# Altium integrated library Linear Technology Power Management Energy Harvesting.IntLib: 169 symbols (part 10 of 13)
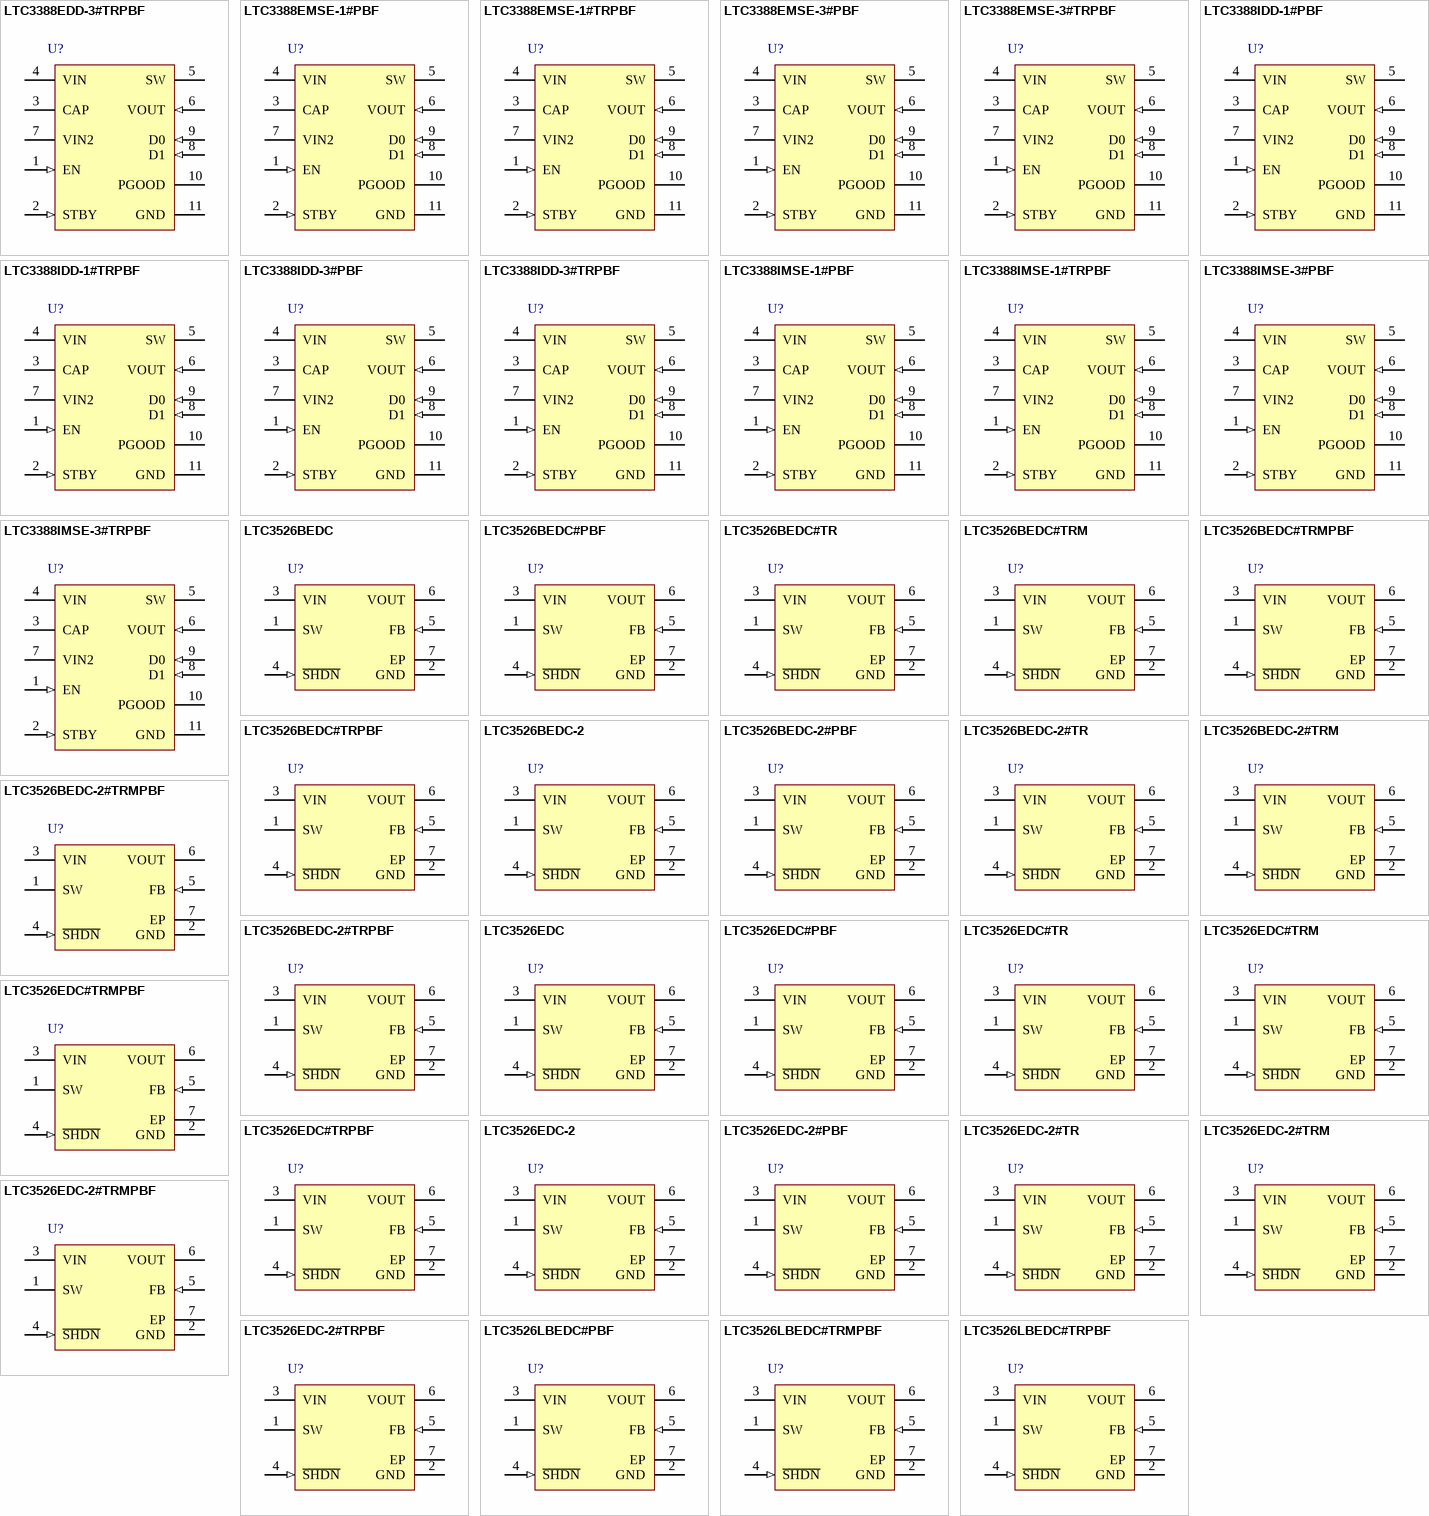
[diagram p14: symbols LTC3388EDD-3#TRPBF to LTC3526LBEDC#TRPBF]

## LTC3526EDC-2#TR
designator U?
500 mA 1 MHz Synchronous Step-Up DC/DC Converter, 6-pin SON (DC6-6), -40 to 85 degC, Tape and Reel; Manufacturer: Linear Technology; PartNumber: LTC3526EDC-2#TR; Number of Outputs: 1; Topology: Boost; Vin Max(V): 5; Vin Min(V): 0.5; DatasheetVersion: Rev. D; PackageVersion: Rev. B, 06/2010; PackageReference: DC6-6; PackageDescription: 6-Pin Plastic DFN, Body 2 x 2 mm, Pitch 0.5 mm; Packing: Tape and Reel; RoHS: FALSE; Mounting Technology: Surface Mount; Code_JEDEC: MO-229; ComponentLink1Description: Manufacturer URL; ComponentLink1URL: http://www.linear.com/; ComponentLink2Description: Datasheet; ComponentLink2URL: http://cds.linear.com/docs/en/datasheet/3526bfd.pdf; ComponentLink3Description: Package Specification; ComponentLink3URL: http://cds.linear.com/docs/en/packaging/DFN_6_05-08-1703.pdf
footprint LT-DC6-6_V (SON, 6-Leads, Body 2x2mm, Pitch 0.5mm, Thermal Pad 1.42x0.61mm)
pins: 1 SW (power) "Switch Pin. Connect inductor between SW and VIN. Keep PCB trace lengths as short and wide as possible to reduce EMI. If the inductor current falls to zero or S\H\D\N\ is low, an internal anti-ringing switch is connected from (See Datasheet)", 2 GND (power) "Signal and Power Ground. Provide a short direct PCB path between GND and the (-) side of the input and output capacitors.", 3 VIN (power) "Input Supply Pin. Connect a minimum of 1uF ceramic decoupling capacitor from this pin to ground using short direct PCB traces.", 4 ~{SHDN} (in) "Logic Controlled Shutdown Input. There is an internal 4Mohm pull-down on this pin.", 5 FB (in) "Feedback Input to the gm Error Amplifier. Connect resistor divider tap to this pin. The top of the divider connects to the output capacitor, the bottom of the divider connects to GND.", 6 VOUT (power) "Output voltage sense and drain of the internal synchronous rectifier. PCB trace from VOUT to the output filter capacitor (4.7uF minimum) should be as short and wide as possible.", 7 EP (power) "The Exposed Pad must be soldered to the PCB ground plane. It serves as an additional ground connection and as a means of conducting heat away from the package."

## LTC3526EDC-2#TRM
designator U?
500 mA 1 MHz Synchronous Step-Up DC/DC Converter, 6-pin SON (DC6-6), -40 to 85 degC, Mini Tape and Reel; Manufacturer: Linear Technology; PartNumber: LTC3526EDC-2#TRM; Number of Outputs: 1; Topology: Boost; Vin Max(V): 5; Vin Min(V): 0.5; DatasheetVersion: Rev. D; PackageVersion: Rev. B, 06/2010; PackageReference: DC6-6; PackageDescription: 6-Pin Plastic DFN, Body 2 x 2 mm, Pitch 0.5 mm; Packing: Mini Tape and Reel; RoHS: FALSE; Mounting Technology: Surface Mount; Code_JEDEC: MO-229; ComponentLink1Description: Manufacturer URL; ComponentLink1URL: http://www.linear.com/; ComponentLink2Description: Datasheet; ComponentLink2URL: http://cds.linear.com/docs/en/datasheet/3526bfd.pdf; ComponentLink3Description: Package Specification; ComponentLink3URL: http://cds.linear.com/docs/en/packaging/DFN_6_05-08-1703.pdf
footprint LT-DC6-6_V (SON, 6-Leads, Body 2x2mm, Pitch 0.5mm, Thermal Pad 1.42x0.61mm)
pins: 1 SW (power) "Switch Pin. Connect inductor between SW and VIN. Keep PCB trace lengths as short and wide as possible to reduce EMI. If the inductor current falls to zero or S\H\D\N\ is low, an internal anti-ringing switch is connected from (See Datasheet)", 2 GND (power) "Signal and Power Ground. Provide a short direct PCB path between GND and the (-) side of the input and output capacitors.", 3 VIN (power) "Input Supply Pin. Connect a minimum of 1uF ceramic decoupling capacitor from this pin to ground using short direct PCB traces.", 4 ~{SHDN} (in) "Logic Controlled Shutdown Input. There is an internal 4Mohm pull-down on this pin.", 5 FB (in) "Feedback Input to the gm Error Amplifier. Connect resistor divider tap to this pin. The top of the divider connects to the output capacitor, the bottom of the divider connects to GND.", 6 VOUT (power) "Output voltage sense and drain of the internal synchronous rectifier. PCB trace from VOUT to the output filter capacitor (4.7uF minimum) should be as short and wide as possible.", 7 EP (power) "The Exposed Pad must be soldered to the PCB ground plane. It serves as an additional ground connection and as a means of conducting heat away from the package."

## LTC3526EDC-2#TRMPBF
designator U?
500 mA 1 MHz Synchronous Step-Up DC/DC Converter, 6-pin SON (DC6-6), -40 to 85 degC, Pb-Free, Mini Tape and Reel; Manufacturer: Linear Technology; PartNumber: LTC3526EDC-2#TRMPBF; Number of Outputs: 1; Topology: Boost; Vin Max(V): 5; Vin Min(V): 0.5; DatasheetVersion: Rev. D; PackageVersion: Rev. B, 06/2010; PackageReference: DC6-6; PackageDescription: 6-Pin Plastic DFN, Body 2 x 2 mm, Pitch 0.5 mm; Supplier 1: Digi-Key; Supplier Part Number 1: LTC3526EDC-2#TRMPBF-ND; Packing: Mini Tape and Reel; RoHS: TRUE; Mounting Technology: Surface Mount; Code_JEDEC: MO-229; ComponentLink1Description: Manufacturer URL; ComponentLink1URL: http://www.linear.com/; ComponentLink2Description: Datasheet; ComponentLink2URL: http://cds.linear.com/docs/en/datasheet/3526bfd.pdf; ComponentLink3Description: Package Specification; ComponentLink3URL: http://cds.linear.com/docs/en/packaging/DFN_6_05-08-1703.pdf
footprint LT-DC6-6_V (SON, 6-Leads, Body 2x2mm, Pitch 0.5mm, Thermal Pad 1.42x0.61mm)
pins: 1 SW (power) "Switch Pin. Connect inductor between SW and VIN. Keep PCB trace lengths as short and wide as possible to reduce EMI. If the inductor current falls to zero or S\H\D\N\ is low, an internal anti-ringing switch is connected from (See Datasheet)", 2 GND (power) "Signal and Power Ground. Provide a short direct PCB path between GND and the (-) side of the input and output capacitors.", 3 VIN (power) "Input Supply Pin. Connect a minimum of 1uF ceramic decoupling capacitor from this pin to ground using short direct PCB traces.", 4 ~{SHDN} (in) "Logic Controlled Shutdown Input. There is an internal 4Mohm pull-down on this pin.", 5 FB (in) "Feedback Input to the gm Error Amplifier. Connect resistor divider tap to this pin. The top of the divider connects to the output capacitor, the bottom of the divider connects to GND.", 6 VOUT (power) "Output voltage sense and drain of the internal synchronous rectifier. PCB trace from VOUT to the output filter capacitor (4.7uF minimum) should be as short and wide as possible.", 7 EP (power) "The Exposed Pad must be soldered to the PCB ground plane. It serves as an additional ground connection and as a means of conducting heat away from the package."

## LTC3526EDC-2#TRPBF
designator U?
500 mA 1 MHz Synchronous Step-Up DC/DC Converter, 6-pin SON (DC6-6), -40 to 85 degC, Pb-Free, Tape and Reel; Manufacturer: Linear Technology; PartNumber: LTC3526EDC-2#TRPBF; Number of Outputs: 1; Topology: Boost; Vin Max(V): 5; Vin Min(V): 0.5; DatasheetVersion: Rev. D; PackageVersion: Rev. B, 06/2010; PackageReference: DC6-6; PackageDescription: 6-Pin Plastic DFN, Body 2 x 2 mm, Pitch 0.5 mm; Supplier 1: Digi-Key; Supplier Part Number 1: LTC3526EDC-2#TRPBF-ND; Packing: Tape and Reel; RoHS: TRUE; Mounting Technology: Surface Mount; Code_JEDEC: MO-229; ComponentLink1Description: Manufacturer URL; ComponentLink1URL: http://www.linear.com/; ComponentLink2Description: Datasheet; ComponentLink2URL: http://cds.linear.com/docs/en/datasheet/3526bfd.pdf; ComponentLink3Description: Package Specification; ComponentLink3URL: http://cds.linear.com/docs/en/packaging/DFN_6_05-08-1703.pdf
footprint LT-DC6-6_V (SON, 6-Leads, Body 2x2mm, Pitch 0.5mm, Thermal Pad 1.42x0.61mm)
pins: 1 SW (power) "Switch Pin. Connect inductor between SW and VIN. Keep PCB trace lengths as short and wide as possible to reduce EMI. If the inductor current falls to zero or S\H\D\N\ is low, an internal anti-ringing switch is connected from (See Datasheet)", 2 GND (power) "Signal and Power Ground. Provide a short direct PCB path between GND and the (-) side of the input and output capacitors.", 3 VIN (power) "Input Supply Pin. Connect a minimum of 1uF ceramic decoupling capacitor from this pin to ground using short direct PCB traces.", 4 ~{SHDN} (in) "Logic Controlled Shutdown Input. There is an internal 4Mohm pull-down on this pin.", 5 FB (in) "Feedback Input to the gm Error Amplifier. Connect resistor divider tap to this pin. The top of the divider connects to the output capacitor, the bottom of the divider connects to GND.", 6 VOUT (power) "Output voltage sense and drain of the internal synchronous rectifier. PCB trace from VOUT to the output filter capacitor (4.7uF minimum) should be as short and wide as possible.", 7 EP (power) "The Exposed Pad must be soldered to the PCB ground plane. It serves as an additional ground connection and as a means of conducting heat away from the package."

## LTC3526LBEDC#PBF
designator U?
550 mA 1 MHz Synchronous Step-Up DC/DC Converter, 6-pin SON (DC6-6), -40 to 85 degC, Pb-Free; Manufacturer: Linear Technology; PartNumber: LTC3526LBEDC#PBF; Number of Outputs: 1; Topology: Boost; Vin Max(V): 5; Vin Min(V): 0.5; DatasheetVersion: Rev. C; PackageVersion: Rev. B, 06/2010; PackageReference: DC6-6; PackageDescription: 6-Pin Plastic DFN, Body 2 x 2 mm, Pitch 0.5 mm; Supplier 1: Newark; Supplier Part Number 1: 78T3197; RoHS: TRUE; Mounting Technology: Surface Mount; Code_JEDEC: MO-229; ComponentLink1Description: Manufacturer URL; ComponentLink1URL: http://www.linear.com/; ComponentLink2Description: Datasheet; ComponentLink2URL: http://cds.linear.com/docs/en/datasheet/3526lfc.pdf; ComponentLink3Description: Package Specification; ComponentLink3URL: http://cds.linear.com/docs/en/packaging/DFN_6_05-08-1703.pdf
footprint LT-DC6-6_V (SON, 6-Leads, Body 2x2mm, Pitch 0.5mm, Thermal Pad 1.42x0.61mm)
pins: 1 SW (power) "Switch Pin. Connect inductor between SW and VIN. Keep PCB trace lengths as short and wide as possible to reduce EMI. If the inductor current falls to zero or S\H\D\N\ is low, an internal anti-ringing switch is connected from (See Datasheet)", 2 GND (power) "Signal and Power Ground. Provide a short direct PCB path between GND and the (-) side of the input and output capacitors.", 3 VIN (power) "Input Supply Pin. Connect a minimum of 1uF ceramic decoupling capacitor from this pin to ground using short direct PCB traces.", 4 ~{SHDN} (in) "Logic Controlled Shutdown Input. There is an internal 4Mohm pull-down on this pin.", 5 FB (in) "Feedback Input to the gm Error Amplifier. Connect resistor divider tap to this pin. The top of the divider connects to the output capacitor, the bottom of the divider connects to GND.", 6 VOUT (power) "Output voltage sense and drain of the internal synchronous rectifier. PCB trace from VOUT to the output filter capacitor (4.7uF minimum) should be as short and wide as possible.", 7 EP (power) "The Exposed Pad must be soldered to the PCB ground plane. It serves as an additional ground connection and as a means of conducting heat away from the package."

## LTC3526LBEDC#TRMPBF
designator U?
550 mA 1 MHz Synchronous Step-Up DC/DC Converter, 6-pin SON (DC6-6), -40 to 85 degC, Pb-Free, Mini Tape and Reel; Manufacturer: Linear Technology; PartNumber: LTC3526LBEDC#TRMPBF; Number of Outputs: 1; Topology: Boost; Vin Max(V): 5; Vin Min(V): 0.5; DatasheetVersion: Rev. C; PackageVersion: Rev. B, 06/2010; PackageReference: DC6-6; PackageDescription: 6-Pin Plastic DFN, Body 2 x 2 mm, Pitch 0.5 mm; Supplier 1: Digi-Key; Supplier Part Number 1: LTC3526LBEDC#TRMPBF-ND; Packing: Mini Tape and Reel; RoHS: TRUE; Mounting Technology: Surface Mount; Code_JEDEC: MO-229; ComponentLink1Description: Manufacturer URL; ComponentLink1URL: http://www.linear.com/; ComponentLink2Description: Datasheet; ComponentLink2URL: http://cds.linear.com/docs/en/datasheet/3526lfc.pdf; ComponentLink3Description: Package Specification; ComponentLink3URL: http://cds.linear.com/docs/en/packaging/DFN_6_05-08-1703.pdf
footprint LT-DC6-6_V (SON, 6-Leads, Body 2x2mm, Pitch 0.5mm, Thermal Pad 1.42x0.61mm)
pins: 1 SW (power) "Switch Pin. Connect inductor between SW and VIN. Keep PCB trace lengths as short and wide as possible to reduce EMI. If the inductor current falls to zero or S\H\D\N\ is low, an internal anti-ringing switch is connected from (See Datasheet)", 2 GND (power) "Signal and Power Ground. Provide a short direct PCB path between GND and the (-) side of the input and output capacitors.", 3 VIN (power) "Input Supply Pin. Connect a minimum of 1uF ceramic decoupling capacitor from this pin to ground using short direct PCB traces.", 4 ~{SHDN} (in) "Logic Controlled Shutdown Input. There is an internal 4Mohm pull-down on this pin.", 5 FB (in) "Feedback Input to the gm Error Amplifier. Connect resistor divider tap to this pin. The top of the divider connects to the output capacitor, the bottom of the divider connects to GND.", 6 VOUT (power) "Output voltage sense and drain of the internal synchronous rectifier. PCB trace from VOUT to the output filter capacitor (4.7uF minimum) should be as short and wide as possible.", 7 EP (power) "The Exposed Pad must be soldered to the PCB ground plane. It serves as an additional ground connection and as a means of conducting heat away from the package."

## LTC3526LBEDC#TRPBF
designator U?
550 mA 1 MHz Synchronous Step-Up DC/DC Converter, 6-pin SON (DC6-6), -40 to 85 degC, Pb-Free, Tape and Reel; Manufacturer: Linear Technology; PartNumber: LTC3526LBEDC#TRPBF; Number of Outputs: 1; Topology: Boost; Vin Max(V): 5; Vin Min(V): 0.5; DatasheetVersion: Rev. C; PackageVersion: Rev. B, 06/2010; PackageReference: DC6-6; PackageDescription: 6-Pin Plastic DFN, Body 2 x 2 mm, Pitch 0.5 mm; Supplier 1: Digi-Key; Supplier Part Number 1: LTC3526LBEDC#TRPBF-ND; Supplier 2: Newark; Supplier Part Number 2: 56M7917; Packing: Tape and Reel; RoHS: TRUE; Mounting Technology: Surface Mount; Code_JEDEC: MO-229; ComponentLink1Description: Manufacturer URL; ComponentLink1URL: http://www.linear.com/; ComponentLink2Description: Datasheet; ComponentLink2URL: http://cds.linear.com/docs/en/datasheet/3526lfc.pdf; ComponentLink3Description: Package Specification; ComponentLink3URL: http://cds.linear.com/docs/en/packaging/DFN_6_05-08-1703.pdf
footprint LT-DC6-6_V (SON, 6-Leads, Body 2x2mm, Pitch 0.5mm, Thermal Pad 1.42x0.61mm)
pins: 1 SW (power) "Switch Pin. Connect inductor between SW and VIN. Keep PCB trace lengths as short and wide as possible to reduce EMI. If the inductor current falls to zero or S\H\D\N\ is low, an internal anti-ringing switch is connected from (See Datasheet)", 2 GND (power) "Signal and Power Ground. Provide a short direct PCB path between GND and the (-) side of the input and output capacitors.", 3 VIN (power) "Input Supply Pin. Connect a minimum of 1uF ceramic decoupling capacitor from this pin to ground using short direct PCB traces.", 4 ~{SHDN} (in) "Logic Controlled Shutdown Input. There is an internal 4Mohm pull-down on this pin.", 5 FB (in) "Feedback Input to the gm Error Amplifier. Connect resistor divider tap to this pin. The top of the divider connects to the output capacitor, the bottom of the divider connects to GND.", 6 VOUT (power) "Output voltage sense and drain of the internal synchronous rectifier. PCB trace from VOUT to the output filter capacitor (4.7uF minimum) should be as short and wide as possible.", 7 EP (power) "The Exposed Pad must be soldered to the PCB ground plane. It serves as an additional ground connection and as a means of conducting heat away from the package."

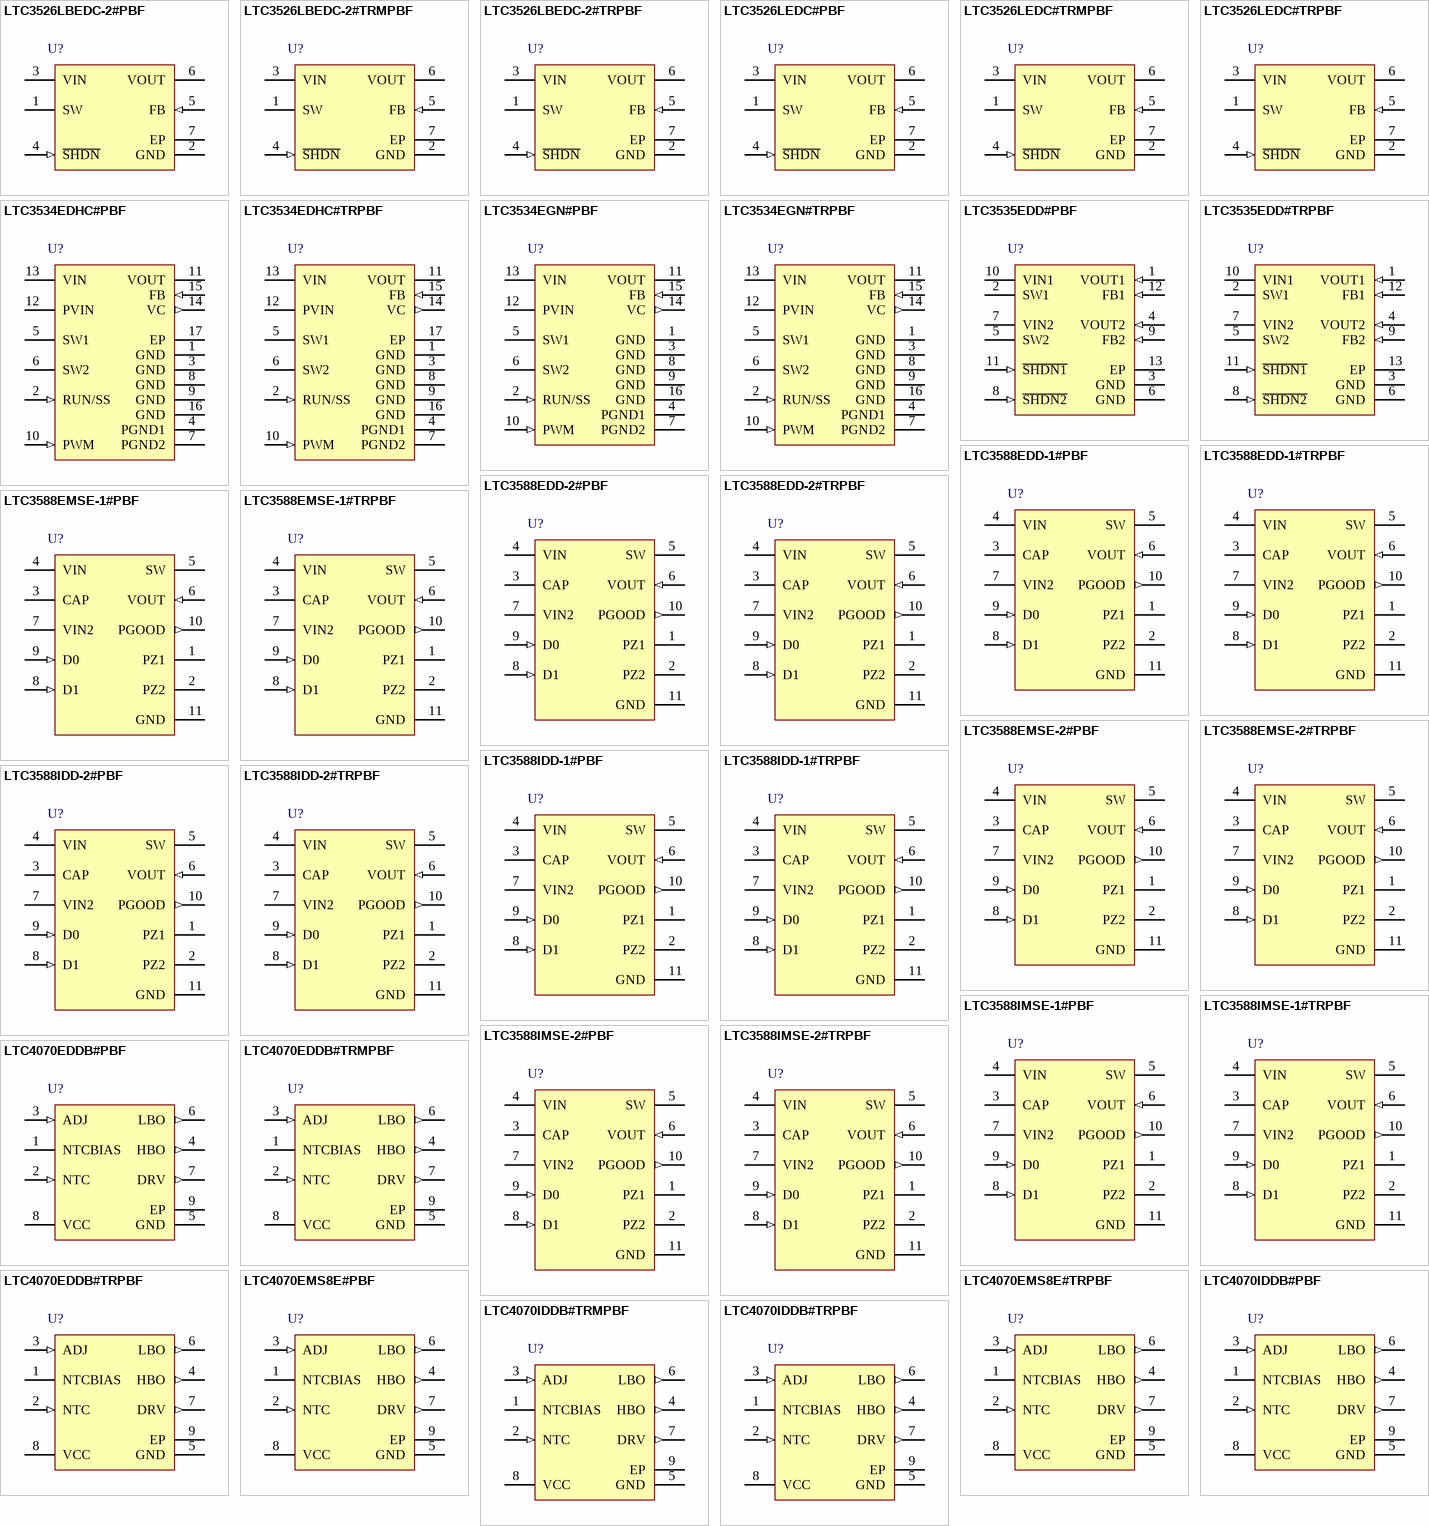
[diagram p4: symbols LTC3526LBEDC-2#PBF to LTC4070IDDB#TRPBF]

## LTC3526LBEDC-2#PBF
designator U?
550 mA 1 MHz Synchronous Step-Up DC/DC Converter, 6-pin SON (DC6-6), -40 to 85 degC, Pb-Free; Manufacturer: Linear Technology; PartNumber: LTC3526LBEDC-2#PBF; Number of Outputs: 1; Topology: Boost; Vin Max(V): 5; Vin Min(V): 0.5; DatasheetVersion: Rev. C; PackageVersion: Rev. B, 06/2010; PackageReference: DC6-6; PackageDescription: 6-Pin Plastic DFN, Body 2 x 2 mm, Pitch 0.5 mm; Supplier 1: Farnell; Supplier Part Number 1: 1783295; Supplier 2: Newark; Supplier Part Number 2: 51R1506; RoHS: TRUE; Mounting Technology: Surface Mount; Code_JEDEC: MO-229; ComponentLink1Description: Manufacturer URL; ComponentLink1URL: http://www.linear.com/; ComponentLink2Description: Datasheet; ComponentLink2URL: http://cds.linear.com/docs/en/datasheet/3526lfc.pdf; ComponentLink3Description: Package Specification; ComponentLink3URL: http://cds.linear.com/docs/en/packaging/DFN_6_05-08-1703.pdf
footprint LT-DC6-6_V (SON, 6-Leads, Body 2x2mm, Pitch 0.5mm, Thermal Pad 1.42x0.61mm)
pins: 1 SW (power) "Switch Pin. Connect inductor between SW and VIN. Keep PCB trace lengths as short and wide as possible to reduce EMI. If the inductor current falls to zero or S\H\D\N\ is low, an internal anti-ringing switch is connected from (See Datasheet)", 2 GND (power) "Signal and Power Ground. Provide a short direct PCB path between GND and the (-) side of the input and output capacitors.", 3 VIN (power) "Input Supply Pin. Connect a minimum of 1uF ceramic decoupling capacitor from this pin to ground using short direct PCB traces.", 4 ~{SHDN} (in) "Logic Controlled Shutdown Input. There is an internal 4Mohm pull-down on this pin.", 5 FB (in) "Feedback Input to the gm Error Amplifier. Connect resistor divider tap to this pin. The top of the divider connects to the output capacitor, the bottom of the divider connects to GND.", 6 VOUT (power) "Output voltage sense and drain of the internal synchronous rectifier. PCB trace from VOUT to the output filter capacitor (4.7uF minimum) should be as short and wide as possible.", 7 EP (power) "The Exposed Pad must be soldered to the PCB ground plane. It serves as an additional ground connection and as a means of conducting heat away from the package."

## LTC3526LBEDC-2#TRMPBF
designator U?
550 mA 1 MHz Synchronous Step-Up DC/DC Converter, 6-pin SON (DC6-6), -40 to 85 degC, Pb-Free, Mini Tape and Reel; Manufacturer: Linear Technology; PartNumber: LTC3526LBEDC-2#TRMPBF; Number of Outputs: 1; Topology: Boost; Vin Max(V): 5; Vin Min(V): 0.5; DatasheetVersion: Rev. C; PackageVersion: Rev. B, 06/2010; PackageReference: DC6-6; PackageDescription: 6-Pin Plastic DFN, Body 2 x 2 mm, Pitch 0.5 mm; Supplier 1: Digi-Key; Supplier Part Number 1: LTC3526LBEDC-2#TRMPBFTR-ND; Supplier 2: Digi-Key; Supplier Part Number 2: LTC3526LBEDC-2#TRMPBFCT-ND; Supplier 3: Digi-Key; Supplier Part Number 3: LTC3526LBEDC-2#TRMPBFDKR-ND; Supplier 4: Farnell; Supplier Part Number 4: 1947921; Supplier 5: Newark; Supplier Part Number 5: 13T8335; Packing: Mini Tape and Reel; RoHS: TRUE; Mounting Technology: Surface Mount; Code_JEDEC: MO-229; ComponentLink1Description: Manufacturer URL; ComponentLink1URL: http://www.linear.com/; ComponentLink2Description: Datasheet; ComponentLink2URL: http://cds.linear.com/docs/en/datasheet/3526lfc.pdf; ComponentLink3Description: Package Specification; ComponentLink3URL: http://cds.linear.com/docs/en/packaging/DFN_6_05-08-1703.pdf
footprint LT-DC6-6_V (SON, 6-Leads, Body 2x2mm, Pitch 0.5mm, Thermal Pad 1.42x0.61mm)
pins: 1 SW (power) "Switch Pin. Connect inductor between SW and VIN. Keep PCB trace lengths as short and wide as possible to reduce EMI. If the inductor current falls to zero or S\H\D\N\ is low, an internal anti-ringing switch is connected from (See Datasheet)", 2 GND (power) "Signal and Power Ground. Provide a short direct PCB path between GND and the (-) side of the input and output capacitors.", 3 VIN (power) "Input Supply Pin. Connect a minimum of 1uF ceramic decoupling capacitor from this pin to ground using short direct PCB traces.", 4 ~{SHDN} (in) "Logic Controlled Shutdown Input. There is an internal 4Mohm pull-down on this pin.", 5 FB (in) "Feedback Input to the gm Error Amplifier. Connect resistor divider tap to this pin. The top of the divider connects to the output capacitor, the bottom of the divider connects to GND.", 6 VOUT (power) "Output voltage sense and drain of the internal synchronous rectifier. PCB trace from VOUT to the output filter capacitor (4.7uF minimum) should be as short and wide as possible.", 7 EP (power) "The Exposed Pad must be soldered to the PCB ground plane. It serves as an additional ground connection and as a means of conducting heat away from the package."

## LTC3526LBEDC-2#TRPBF
designator U?
550 mA 1 MHz Synchronous Step-Up DC/DC Converter, 6-pin SON (DC6-6), -40 to 85 degC, Pb-Free, Tape and Reel; Manufacturer: Linear Technology; PartNumber: LTC3526LBEDC-2#TRPBF; Number of Outputs: 1; Topology: Boost; Vin Max(V): 5; Vin Min(V): 0.5; DatasheetVersion: Rev. C; PackageVersion: Rev. B, 06/2010; PackageReference: DC6-6; PackageDescription: 6-Pin Plastic DFN, Body 2 x 2 mm, Pitch 0.5 mm; Supplier 1: Digi-Key; Supplier Part Number 1: LTC3526LBEDC-2#TRPBF-ND; Packing: Tape and Reel; RoHS: TRUE; Mounting Technology: Surface Mount; Code_JEDEC: MO-229; ComponentLink1Description: Manufacturer URL; ComponentLink1URL: http://www.linear.com/; ComponentLink2Description: Datasheet; ComponentLink2URL: http://cds.linear.com/docs/en/datasheet/3526lfc.pdf; ComponentLink3Description: Package Specification; ComponentLink3URL: http://cds.linear.com/docs/en/packaging/DFN_6_05-08-1703.pdf
footprint LT-DC6-6_V (SON, 6-Leads, Body 2x2mm, Pitch 0.5mm, Thermal Pad 1.42x0.61mm)
pins: 1 SW (power) "Switch Pin. Connect inductor between SW and VIN. Keep PCB trace lengths as short and wide as possible to reduce EMI. If the inductor current falls to zero or S\H\D\N\ is low, an internal anti-ringing switch is connected from (See Datasheet)", 2 GND (power) "Signal and Power Ground. Provide a short direct PCB path between GND and the (-) side of the input and output capacitors.", 3 VIN (power) "Input Supply Pin. Connect a minimum of 1uF ceramic decoupling capacitor from this pin to ground using short direct PCB traces.", 4 ~{SHDN} (in) "Logic Controlled Shutdown Input. There is an internal 4Mohm pull-down on this pin.", 5 FB (in) "Feedback Input to the gm Error Amplifier. Connect resistor divider tap to this pin. The top of the divider connects to the output capacitor, the bottom of the divider connects to GND.", 6 VOUT (power) "Output voltage sense and drain of the internal synchronous rectifier. PCB trace from VOUT to the output filter capacitor (4.7uF minimum) should be as short and wide as possible.", 7 EP (power) "The Exposed Pad must be soldered to the PCB ground plane. It serves as an additional ground connection and as a means of conducting heat away from the package."

## LTC3526LEDC#PBF
designator U?
550 mA 1 MHz Synchronous Step-Up DC/DC Converter, 6-pin SON (DC6-6), -40 to 85 degC, Pb-Free; Manufacturer: Linear Technology; PartNumber: LTC3526LEDC#PBF; Number of Outputs: 1; Topology: Boost; Vin Max(V): 5; Vin Min(V): 0.5; DatasheetVersion: Rev. C; PackageVersion: Rev. B, 06/2010; PackageReference: DC6-6; PackageDescription: 6-Pin Plastic DFN, Body 2 x 2 mm, Pitch 0.5 mm; Supplier 1: Farnell; Supplier Part Number 1: 2295068; Supplier 2: Newark; Supplier Part Number 2: 77R3390; RoHS: TRUE; Mounting Technology: Surface Mount; Code_JEDEC: MO-229; ComponentLink1Description: Manufacturer URL; ComponentLink1URL: http://www.linear.com/; ComponentLink2Description: Datasheet; ComponentLink2URL: http://cds.linear.com/docs/en/datasheet/3526lfc.pdf; ComponentLink3Description: Package Specification; ComponentLink3URL: http://cds.linear.com/docs/en/packaging/DFN_6_05-08-1703.pdf
footprint LT-DC6-6_V (SON, 6-Leads, Body 2x2mm, Pitch 0.5mm, Thermal Pad 1.42x0.61mm)
pins: 1 SW (power) "Switch Pin. Connect inductor between SW and VIN. Keep PCB trace lengths as short and wide as possible to reduce EMI. If the inductor current falls to zero or S\H\D\N\ is low, an internal anti-ringing switch is connected from (See Datasheet)", 2 GND (power) "Signal and Power Ground. Provide a short direct PCB path between GND and the (-) side of the input and output capacitors.", 3 VIN (power) "Input Supply Pin. Connect a minimum of 1uF ceramic decoupling capacitor from this pin to ground using short direct PCB traces.", 4 ~{SHDN} (in) "Logic Controlled Shutdown Input. There is an internal 4Mohm pull-down on this pin.", 5 FB (in) "Feedback Input to the gm Error Amplifier. Connect resistor divider tap to this pin. The top of the divider connects to the output capacitor, the bottom of the divider connects to GND.", 6 VOUT (power) "Output voltage sense and drain of the internal synchronous rectifier. PCB trace from VOUT to the output filter capacitor (4.7uF minimum) should be as short and wide as possible.", 7 EP (power) "The Exposed Pad must be soldered to the PCB ground plane. It serves as an additional ground connection and as a means of conducting heat away from the package."

## LTC3526LEDC#TRMPBF
designator U?
550 mA 1 MHz Synchronous Step-Up DC/DC Converter, 6-pin SON (DC6-6), -40 to 85 degC, Pb-Free, Mini Tape and Reel; Manufacturer: Linear Technology; PartNumber: LTC3526LEDC#TRMPBF; Number of Outputs: 1; Topology: Boost; Vin Max(V): 5; Vin Min(V): 0.5; DatasheetVersion: Rev. C; PackageVersion: Rev. B, 06/2010; PackageReference: DC6-6; PackageDescription: 6-Pin Plastic DFN, Body 2 x 2 mm, Pitch 0.5 mm; Supplier 1: Digi-Key; Supplier Part Number 1: LTC3526LEDC#TRMPBFTR-ND; Supplier 2: Digi-Key; Supplier Part Number 2: LTC3526LEDC#TRMPBFCT-ND; Supplier 3: Digi-Key; Supplier Part Number 3: LTC3526LEDC#TRMPBFDKR-ND; Supplier 4: Newark; Supplier Part Number 4: 56M7918; Packing: Mini Tape and Reel; RoHS: TRUE; Mounting Technology: Surface Mount; Code_JEDEC: MO-229; ComponentLink1Description: Manufacturer URL; ComponentLink1URL: http://www.linear.com/; ComponentLink2Description: Datasheet; ComponentLink2URL: http://cds.linear.com/docs/en/datasheet/3526lfc.pdf; ComponentLink3Description: Package Specification; ComponentLink3URL: http://cds.linear.com/docs/en/packaging/DFN_6_05-08-1703.pdf
footprint LT-DC6-6_V (SON, 6-Leads, Body 2x2mm, Pitch 0.5mm, Thermal Pad 1.42x0.61mm)
pins: 1 SW (power) "Switch Pin. Connect inductor between SW and VIN. Keep PCB trace lengths as short and wide as possible to reduce EMI. If the inductor current falls to zero or S\H\D\N\ is low, an internal anti-ringing switch is connected from (See Datasheet)", 2 GND (power) "Signal and Power Ground. Provide a short direct PCB path between GND and the (-) side of the input and output capacitors.", 3 VIN (power) "Input Supply Pin. Connect a minimum of 1uF ceramic decoupling capacitor from this pin to ground using short direct PCB traces.", 4 ~{SHDN} (in) "Logic Controlled Shutdown Input. There is an internal 4Mohm pull-down on this pin.", 5 FB (in) "Feedback Input to the gm Error Amplifier. Connect resistor divider tap to this pin. The top of the divider connects to the output capacitor, the bottom of the divider connects to GND.", 6 VOUT (power) "Output voltage sense and drain of the internal synchronous rectifier. PCB trace from VOUT to the output filter capacitor (4.7uF minimum) should be as short and wide as possible.", 7 EP (power) "The Exposed Pad must be soldered to the PCB ground plane. It serves as an additional ground connection and as a means of conducting heat away from the package."

## LTC3526LEDC#TRPBF
designator U?
550 mA 1 MHz Synchronous Step-Up DC/DC Converter, 6-pin SON (DC6-6), -40 to 85 degC, Pb-Free, Tape and Reel; Manufacturer: Linear Technology; PartNumber: LTC3526LEDC#TRPBF; Number of Outputs: 1; Topology: Boost; Vin Max(V): 5; Vin Min(V): 0.5; DatasheetVersion: Rev. C; PackageVersion: Rev. B, 06/2010; PackageReference: DC6-6; PackageDescription: 6-Pin Plastic DFN, Body 2 x 2 mm, Pitch 0.5 mm; Supplier 1: Digi-Key; Supplier Part Number 1: LTC3526LEDC#TRPBF-ND; Supplier 2: Newark; Supplier Part Number 2: 56M7919; Packing: Tape and Reel; RoHS: TRUE; Mounting Technology: Surface Mount; Code_JEDEC: MO-229; ComponentLink1Description: Manufacturer URL; ComponentLink1URL: http://www.linear.com/; ComponentLink2Description: Datasheet; ComponentLink2URL: http://cds.linear.com/docs/en/datasheet/3526lfc.pdf; ComponentLink3Description: Package Specification; ComponentLink3URL: http://cds.linear.com/docs/en/packaging/DFN_6_05-08-1703.pdf
footprint LT-DC6-6_V (SON, 6-Leads, Body 2x2mm, Pitch 0.5mm, Thermal Pad 1.42x0.61mm)
pins: 1 SW (power) "Switch Pin. Connect inductor between SW and VIN. Keep PCB trace lengths as short and wide as possible to reduce EMI. If the inductor current falls to zero or S\H\D\N\ is low, an internal anti-ringing switch is connected from (See Datasheet)", 2 GND (power) "Signal and Power Ground. Provide a short direct PCB path between GND and the (-) side of the input and output capacitors.", 3 VIN (power) "Input Supply Pin. Connect a minimum of 1uF ceramic decoupling capacitor from this pin to ground using short direct PCB traces.", 4 ~{SHDN} (in) "Logic Controlled Shutdown Input. There is an internal 4Mohm pull-down on this pin.", 5 FB (in) "Feedback Input to the gm Error Amplifier. Connect resistor divider tap to this pin. The top of the divider connects to the output capacitor, the bottom of the divider connects to GND.", 6 VOUT (power) "Output voltage sense and drain of the internal synchronous rectifier. PCB trace from VOUT to the output filter capacitor (4.7uF minimum) should be as short and wide as possible.", 7 EP (power) "The Exposed Pad must be soldered to the PCB ground plane. It serves as an additional ground connection and as a means of conducting heat away from the package."

## LTC3534EDHC#PBF
designator U?
7 V, 500 mA Synchronous Buck-Boost DC/DC Converter, 16-pin SON (DHC-16), -40 to 85 degC, Pb-Free; Manufacturer: Linear Technology; PartNumber: LTC3534EDHC#PBF; Number of Outputs: 1; Vin Max(V): 7; Vin Min(V): 2.4; PackageReference: DHC-16; PackageDescription: 16-Pin Plastic DFN, Body 5 x 3 mm, Pitch 0.5 mm; Supplier 1: Digi-Key; Supplier Part Number 1: LTC3534EDHC#PBF-ND; Supplier 2: Farnell; Supplier Part Number 2: 2295070; Supplier 3: Newark; Supplier Part Number 3: 56P3082; RoHS: TRUE; Topology: Buck-Boost; Vout Max(V): 7; Mounting Technology: Surface Mount; Code_JEDEC: MO-229; ComponentLink1Description: Manufacturer URL; ComponentLink1URL: http://www.linear.com/; ComponentLink2Description: Datasheet; ComponentLink2URL: http://cds.linear.com/docs/en/datasheet/3534f.pdf; ComponentLink3Description: Package Specification; ComponentLink3URL: http://cds.linear.com/docs/en/packaging/DFN_16_05-08-1706.pdf
footprint LT-DHC-16_V (SON, 16-Leads, Body 5x3mm, Pitch 0.5mm, Thermal Pad 4.4X1.65mm)
pins: 1 GND (power) "IC Substrate Grounds. These pins MUST be soldered to the printed circuit board ground to provide both electrical contact and a good thermal contact to the PCB.", 2 RUN/SS (in) "Combined Shutdown and Soft-Start. Applying a voltage below 400mV shuts down the IC. Apply a voltage above 1.4V to enable the IC and above 2.4V to ensure that the error amp is not clamped from soft-start. An R-C from the (See Datasheet)", 3 GND (power) "Signal Ground for the IC.", 4 PGND1 (power) "Power Ground for the Internal N-channel MOSFET Power Switches (Switches B and C).", 5 SW1 "Switch Pin where Internal Switches A and B are Connected. Connect inductor from SW1 to SW2. Minimize trace length to reduce EMI.", 6 SW2 "Switch Pin where Internal Switches C and D are Connected. Minimize trace length to reduce EMI.", 7 PGND2 (power) "Power Ground for the Internal N-channel MOSFET Power Switches (Switches B and C).", 8 GND (power) "IC Substrate Grounds. These pins MUST be soldered to the printed circuit board ground to provide both electrical contact and a good thermal contact to the PCB.", 9 GND (power) "IC Substrate Grounds. These pins MUST be soldered to the printed circuit board ground to provide both electrical contact and a good thermal contact to the PCB.", 10 PWM (in) "Burst Mode Select. Applying a voltage below 400mV enables Burst Mode operation, providing a significant efficiency improvement at light loads. During the period where the IC is supplying energy to the output, the inductor (See Datasheet)", 11 VOUT (power) "Output of the Synchronous Rectifier. A filter capacitor is placed from VOUT to GND. A ceramic bypass capacitor is recommended as close to the VOUT and GND pins as possible.", 12 PVIN (power) "Power VIN Supply Pin. A 10uF ceramic capacitor is recommended as close to the PVIN and PGND pins as possible.", 13 VIN (power) "Input Supply Pin. Connect the power source to this pin.", 14 VC (out) "Error Amp Output. An R-C network is connected from this pin to FB for loop compensation. Refer to "Closing the Feedback Loop" section for component selection guidelines.", 15 FB (in) "Feedback Pin. Connect VOUT resistor divider tap to this pin. The output voltage can be adjusted from 1.8V to 7V. The feedback reference voltage is typically 1V.", 16 GND (power) "IC Substrate Grounds. These pins MUST be soldered to the printed circuit board ground to provide both electrical contact and a good thermal contact to the PCB.", 17 EP (power) "IC Substrate Ground. This pin MUST be soldered to the printed circuit board ground to provide both electrical contact and a good thermal contact to the PCB."

## LTC3534EDHC#TRPBF
designator U?
7 V, 500 mA Synchronous Buck-Boost DC/DC Converter, 16-pin SON (DHC-16), -40 to 85 degC, Pb-Free, Tape and Reel; Manufacturer: Linear Technology; PartNumber: LTC3534EDHC#TRPBF; Number of Outputs: 1; Vin Max(V): 7; Vin Min(V): 2.4; PackageReference: DHC-16; PackageDescription: 16-Pin Plastic DFN, Body 5 x 3 mm, Pitch 0.5 mm; Supplier 1: Digi-Key; Supplier Part Number 1: LTC3534EDHC#TRPBF-ND; Supplier 2: Newark; Supplier Part Number 2: 56P3083; Packing: Tape and Reel; RoHS: TRUE; Topology: Buck-Boost; Vout Max(V): 7; Mounting Technology: Surface Mount; Code_JEDEC: MO-229; ComponentLink1Description: Manufacturer URL; ComponentLink1URL: http://www.linear.com/; ComponentLink2Description: Datasheet; ComponentLink2URL: http://cds.linear.com/docs/en/datasheet/3534f.pdf; ComponentLink3Description: Package Specification; ComponentLink3URL: http://cds.linear.com/docs/en/packaging/DFN_16_05-08-1706.pdf
footprint LT-DHC-16_V (SON, 16-Leads, Body 5x3mm, Pitch 0.5mm, Thermal Pad 4.4X1.65mm)
pins: 1 GND (power) "IC Substrate Grounds. These pins MUST be soldered to the printed circuit board ground to provide both electrical contact and a good thermal contact to the PCB.", 2 RUN/SS (in) "Combined Shutdown and Soft-Start. Applying a voltage below 400mV shuts down the IC. Apply a voltage above 1.4V to enable the IC and above 2.4V to ensure that the error amp is not clamped from soft-start. An R-C from the (See Datasheet)", 3 GND (power) "Signal Ground for the IC.", 4 PGND1 (power) "Power Ground for the Internal N-channel MOSFET Power Switches (Switches B and C).", 5 SW1 "Switch Pin where Internal Switches A and B are Connected. Connect inductor from SW1 to SW2. Minimize trace length to reduce EMI.", 6 SW2 "Switch Pin where Internal Switches C and D are Connected. Minimize trace length to reduce EMI.", 7 PGND2 (power) "Power Ground for the Internal N-channel MOSFET Power Switches (Switches B and C).", 8 GND (power) "IC Substrate Grounds. These pins MUST be soldered to the printed circuit board ground to provide both electrical contact and a good thermal contact to the PCB.", 9 GND (power) "IC Substrate Grounds. These pins MUST be soldered to the printed circuit board ground to provide both electrical contact and a good thermal contact to the PCB.", 10 PWM (in) "Burst Mode Select. Applying a voltage below 400mV enables Burst Mode operation, providing a significant efficiency improvement at light loads. During the period where the IC is supplying energy to the output, the inductor (See Datasheet)", 11 VOUT (power) "Output of the Synchronous Rectifier. A filter capacitor is placed from VOUT to GND. A ceramic bypass capacitor is recommended as close to the VOUT and GND pins as possible.", 12 PVIN (power) "Power VIN Supply Pin. A 10uF ceramic capacitor is recommended as close to the PVIN and PGND pins as possible.", 13 VIN (power) "Input Supply Pin. Connect the power source to this pin.", 14 VC (out) "Error Amp Output. An R-C network is connected from this pin to FB for loop compensation. Refer to "Closing the Feedback Loop" section for component selection guidelines.", 15 FB (in) "Feedback Pin. Connect VOUT resistor divider tap to this pin. The output voltage can be adjusted from 1.8V to 7V. The feedback reference voltage is typically 1V.", 16 GND (power) "IC Substrate Grounds. These pins MUST be soldered to the printed circuit board ground to provide both electrical contact and a good thermal contact to the PCB.", 17 EP (power) "IC Substrate Ground. This pin MUST be soldered to the printed circuit board ground to provide both electrical contact and a good thermal contact to the PCB."

## LTC3534EGN#PBF
designator U?
7 V, 500 mA Synchronous Buck-Boost DC/DC Converter, 16-pin SOP (GN-16), -40 to 85 degC, Pb-Free; Manufacturer: Linear Technology; PartNumber: LTC3534EGN#PBF; Number of Outputs: 1; Vin Max(V): 7; Vin Min(V): 2.4; PackageVersion: Rev. B, 03/2012; PackageReference: GN-16; PackageDescription: 16-Pin Plastic SSOP, Body 4.9 x 3.9 mm, Pitch 0.635 mm; Supplier 1: Digi-Key; Supplier Part Number 1: LTC3534EGN#PBF-ND; Supplier 2: Farnell; Supplier Part Number 2: 1696241; Supplier 3: Newark; Supplier Part Number 3: 56P2477; RoHS: TRUE; Topology: Buck-Boost; Vout Max(V): 7; Mounting Technology: Surface Mount; ComponentLink1Description: Manufacturer URL; ComponentLink1URL: http://www.linear.com/; ComponentLink2Description: Datasheet; ComponentLink2URL: http://cds.linear.com/docs/en/datasheet/3534f.pdf; ComponentLink3Description: Package Specification; ComponentLink3URL: http://cds.linear.com/docs/en/packaging/05081641_B_GN16.pdf
footprint LT-GN-16_N (SOP, 16-Leads, Body 5x4mm, Pitch 0.635mm, IPC Medium Density)
footprint LT-GN-16_L (SOP, 16-Leads, Body 5x4mm, Pitch 0.635mm, IPC High Density)
footprint LT-GN-16_M (SOP, 16-Leads, Body 5x4mm, Pitch 0.635mm, IPC Low Density)
pins: 1 GND (power) "IC Substrate Grounds. These pins MUST be soldered to the printed circuit board ground to provide both electrical contact and a good thermal contact to the PCB.", 2 RUN/SS (in) "Combined Shutdown and Soft-Start. Applying a voltage below 400mV shuts down the IC. Apply a voltage above 1.4V to enable the IC and above 2.4V to ensure that the error amp is not clamped from soft-start. An R-C from the (See Datasheet)", 3 GND (power) "Signal Ground for the IC.", 4 PGND1 (power) "Power Ground for the Internal N-channel MOSFET Power Switches (Switches B and C).", 5 SW1 "Switch Pin where Internal Switches A and B are Connected. Connect inductor from SW1 to SW2. Minimize trace length to reduce EMI.", 6 SW2 "Switch Pin where Internal Switches C and D are Connected. Minimize trace length to reduce EMI.", 7 PGND2 (power) "Power Ground for the Internal N-channel MOSFET Power Switches (Switches B and C).", 8 GND (power) "IC Substrate Grounds. These pins MUST be soldered to the printed circuit board ground to provide both electrical contact and a good thermal contact to the PCB.", 9 GND (power) "IC Substrate Grounds. These pins MUST be soldered to the printed circuit board ground to provide both electrical contact and a good thermal contact to the PCB.", 10 PWM (in) "Burst Mode Select. Applying a voltage below 400mV enables Burst Mode operation, providing a significant efficiency improvement at light loads. During the period where the IC is supplying energy to the output, the inductor (See Datasheet)", 11 VOUT (power) "Output of the Synchronous Rectifier. A filter capacitor is placed from VOUT to GND. A ceramic bypass capacitor is recommended as close to the VOUT and GND pins as possible.", 12 PVIN (power) "Power VIN Supply Pin. A 10uF ceramic capacitor is recommended as close to the PVIN and PGND pins as possible.", 13 VIN (power) "Input Supply Pin. Connect the power source to this pin.", 14 VC (out) "Error Amp Output. An R-C network is connected from this pin to FB for loop compensation. Refer to “Closing the Feedback Loop" section for component selection guidelines.", 15 FB (in) "Feedback Pin. Connect VOUT resistor divider tap to this pin. The output voltage can be adjusted from 1.8V to 7V. The feedback reference voltage is typically 1V.", 16 GND (power) "IC Substrate Grounds. These pins MUST be soldered to the printed circuit board ground to provide both electrical contact and a good thermal contact to the PCB."

## LTC3534EGN#TRPBF
designator U?
7 V, 500 mA Synchronous Buck-Boost DC/DC Converter, 16-pin SOP (GN-16), -40 to 85 degC, Pb-Free, Tape and Reel; Manufacturer: Linear Technology; PartNumber: LTC3534EGN#TRPBF; Number of Outputs: 1; Vin Max(V): 7; Vin Min(V): 2.4; PackageVersion: Rev. B, 03/2012; PackageReference: GN-16; PackageDescription: 16-Pin Plastic SSOP, Body 4.9 x 3.9 mm, Pitch 0.635 mm; Supplier 1: Digi-Key; Supplier Part Number 1: LTC3534EGN#TRPBF-ND; Supplier 2: Newark; Supplier Part Number 2: 56P3084; Packing: Tape and Reel; RoHS: TRUE; Topology: Buck-Boost; Vout Max(V): 7; Mounting Technology: Surface Mount; ComponentLink1Description: Manufacturer URL; ComponentLink1URL: http://www.linear.com/; ComponentLink2Description: Datasheet; ComponentLink2URL: http://cds.linear.com/docs/en/datasheet/3534f.pdf; ComponentLink3Description: Package Specification; ComponentLink3URL: http://cds.linear.com/docs/en/packaging/05081641_B_GN16.pdf
footprint LT-GN-16_N (SOP, 16-Leads, Body 5x4mm, Pitch 0.635mm, IPC Medium Density)
footprint LT-GN-16_L (SOP, 16-Leads, Body 5x4mm, Pitch 0.635mm, IPC High Density)
footprint LT-GN-16_M (SOP, 16-Leads, Body 5x4mm, Pitch 0.635mm, IPC Low Density)
pins: 1 GND (power) "IC Substrate Grounds. These pins MUST be soldered to the printed circuit board ground to provide both electrical contact and a good thermal contact to the PCB.", 2 RUN/SS (in) "Combined Shutdown and Soft-Start. Applying a voltage below 400mV shuts down the IC. Apply a voltage above 1.4V to enable the IC and above 2.4V to ensure that the error amp is not clamped from soft-start. An R-C from the (See Datasheet)", 3 GND (power) "Signal Ground for the IC.", 4 PGND1 (power) "Power Ground for the Internal N-channel MOSFET Power Switches (Switches B and C).", 5 SW1 "Switch Pin where Internal Switches A and B are Connected. Connect inductor from SW1 to SW2. Minimize trace length to reduce EMI.", 6 SW2 "Switch Pin where Internal Switches C and D are Connected. Minimize trace length to reduce EMI.", 7 PGND2 (power) "Power Ground for the Internal N-channel MOSFET Power Switches (Switches B and C).", 8 GND (power) "IC Substrate Grounds. These pins MUST be soldered to the printed circuit board ground to provide both electrical contact and a good thermal contact to the PCB.", 9 GND (power) "IC Substrate Grounds. These pins MUST be soldered to the printed circuit board ground to provide both electrical contact and a good thermal contact to the PCB.", 10 PWM (in) "Burst Mode Select. Applying a voltage below 400mV enables Burst Mode operation, providing a significant efficiency improvement at light loads. During the period where the IC is supplying energy to the output, the inductor (See Datasheet)", 11 VOUT (power) "Output of the Synchronous Rectifier. A filter capacitor is placed from VOUT to GND. A ceramic bypass capacitor is recommended as close to the VOUT and GND pins as possible.", 12 PVIN (power) "Power VIN Supply Pin. A 10uF ceramic capacitor is recommended as close to the PVIN and PGND pins as possible.", 13 VIN (power) "Input Supply Pin. Connect the power source to this pin.", 14 VC (out) "Error Amp Output. An R-C network is connected from this pin to FB for loop compensation. Refer to “Closing the Feedback Loop" section for component selection guidelines.", 15 FB (in) "Feedback Pin. Connect VOUT resistor divider tap to this pin. The output voltage can be adjusted from 1.8V to 7V. The feedback reference voltage is typically 1V.", 16 GND (power) "IC Substrate Grounds. These pins MUST be soldered to the printed circuit board ground to provide both electrical contact and a good thermal contact to the PCB."

## LTC3535EDD#PBF
designator U?
Dual Channel 550 mA 1 MHz Synchronous Step-Up DC/DC Converter, 12-pin SON (DD-12), -40 to 85 degC, Pb-Free; Manufacturer: Linear Technology; PartNumber: LTC3535EDD#PBF; Number of Outputs: 2; Topology: Boost; Vin Max(V): 5; Vin Min(V): 0.5; DatasheetVersion: Rev. A; PackageVersion: Rev. A, 06/2010; PackageReference: DD-12; PackageDescription: 12-Pin Plastic DFN, Body 3 x 3 mm, Pitch 0.45 mm; Supplier 1: Digi-Key; Supplier Part Number 1: LTC3535EDD#PBF-ND; Supplier 2: Farnell; Supplier Part Number 2: 1947922; Supplier 3: Newark; Supplier Part Number 3: 46P4009; RoHS: TRUE; Mounting Technology: Surface Mount; ComponentLink1Description: Manufacturer URL; ComponentLink1URL: http://www.linear.com/; ComponentLink2Description: Datasheet; ComponentLink2URL: http://cds.linear.com/docs/en/datasheet/3535fa.pdf; ComponentLink3Description: Package Specification; ComponentLink3URL: http://cds.linear.com/docs/en/packaging/DFN_12_05-08-1725.pdf
footprint LT-DD-12_V (SON, 12-Leads, Body 3x3mm, Pitch 0.45mm, Thermal Pad 2.38x1.65mm)
pins: 1 VOUT1 (in) "Output Voltage Sense and Drain of the Internal Synchronous Rectifier for Channel 1. PCB trace length from VOUT1 to the output filter capacitor (4.7uF minimum) should be as short and wide as possible.", 2 SW1 "Switch Pin for Channel 1. Connect inductor between SW1 and VIN1. Keep PCB trace lengths as short and wide as possible to reduce EMI. If the inductor current falls to zero, or S\H\D\N\1\ is low, an internal anti-ringing (See Datasheet)", 3 GND (power) "Signal and Power Ground. Provide a short direct PCB path between GND and the (-) side of the input and output capacitors. The exposed pad must be soldered to the PCB ground plane. It serves as another ground connection and (See Datasheet)", 4 VOUT2 (in) "Output Voltage Sense and Drain of the Internal Synchronous Rectifier for Channel 2. PCB trace length from VOUT2 to the output filter capacitor (4.7uF minimum) should be as short and wide as possible.", 5 SW2 "Switch Pin for Channel 2. Connect inductor between SW2 and VIN2. Keep PCB trace lengths as short and wide as possible to reduce EMI. If the inductor current falls to zero, or S\H\D\N\2\ is low, an internal anti-ringing (See Datasheet)", 6 GND (power) "Signal and Power Ground. Provide a short direct PCB path between GND and the (-) side of the input and output capacitors. The exposed pad must be soldered to the PCB ground plane. It serves as another ground connection and (See Datasheet)", 7 VIN2 (power) "Battery Input Voltage for Channel 2. Connect a minimum of 1uF ceramic decoupling capacitor from this pin to ground.", 8 ~{SHDN2} (in) "Logic Controlled Shutdown Input for Channel 2. There is an internal 4Mohm pull-down on this pin. S\H\D\N\ = High: Normal operation. S\H\D\N\ = Low: Shutdown, quiescent current < 1uA.", 9 FB2 (in) "Feedback Input to the gm Error Amplifier of Channel 2. Connect resistor divider tap to this pin. The output voltage can be adjusted from 1.5V to 5.25V by: VOUT = 1.195V x [1 + (R4/R3)]", 10 VIN1 (power) "Battery Input Voltage for Channel 1. Connect a minimum of 1uF ceramic decoupling capacitor from this pin to ground.", 11 ~{SHDN1} (in) "Logic Controlled Shutdown Input for Channel 1. There is an internal 4Mohm pull-down on this pin. S\H\D\N\ = High: Normal operation. S\H\D\N\ = Low: Shutdown, quiescent current < 1uA.", 12 FB1 (in) "Feedback Input to the gm Error Amplifier of Channel 1. Connect resistor divider tap to this pin. The output voltage can be adjusted from 1.5V to 5.25V by: VOUT = 1.195V x [1 + (R2/R1)].", 13 EP (power) "Signal and Power Ground. Provide a short direct PCB path between GND and the (-) side of the input and output capacitors. The exposed pad must be soldered to the PCB ground plane. It serves as another ground connection and (See Datasheet)"